# Altium footprint library YPW.PcbLib: 1 footprints
Each footprint in its own frame and in the unit in brackets; x right, y up, seen from the top. Pads: shape width x height; smd on the part's side, far side on the other; paste and mask are expansions set on the pad; w line width, h text height; cw(c..) or ccw(c..) is an arc to the next point about the centre after c.
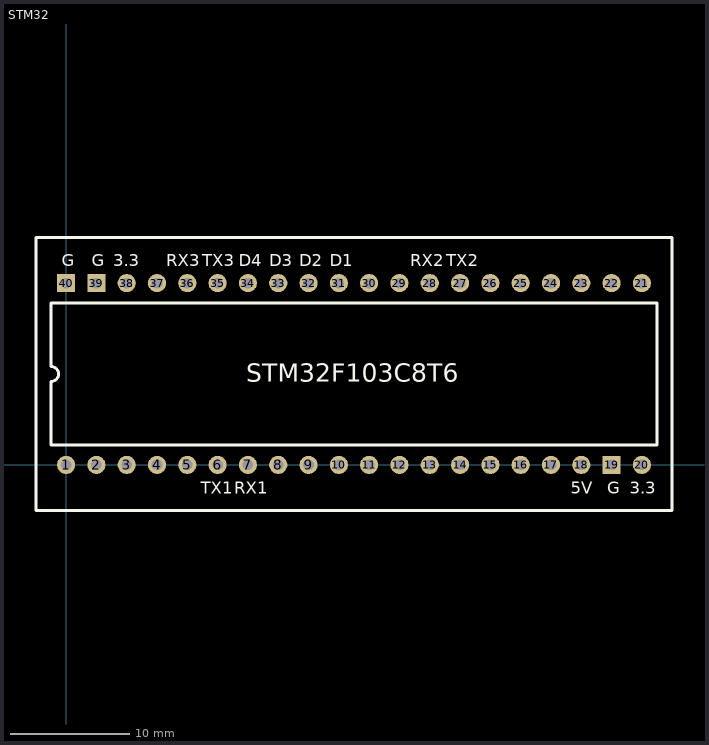
[diagram p0: the footprint, top view; thin cyan lines are the x and y axes]

## STM32 [mil]
pads (40):
  round 60 / inner round 50 / far side round 60 hole 35: 1(0,0) 2(100,0) 3(200,0) 4(300,0) 5(400,0) 6(500,0) 7(600,0) 8(700,0) 9(800,0) 10(900,0) 11(1000,0) 12(1100,0) 13(1200,0) 14(1300,0) 15(1400,0) 16(1500,0) 17(1600,0) 18(1700,0) 20(1900,0) 21(1900,600) 22(1800,600) 23(1700,600) 24(1600,600) 25(1500,600) 26(1400,600) 27(1300,600) 28(1200,600) 29(1100,600) 30(1000,600) 31(900,600) 32(800,600) 33(700,600) 34(600,600) 35(500,600) 36(400,600) 37(300,600) 38(200,600)
  rect 60x60 / inner rect 50x50 / far side rect 60x60 hole 35: 19(1800,0) 39(100,600) 40(0,600)
Top Overlay:
  lines w10: -100,-150 2000,-150 2000,750 -100,750 -100,-150 ; -50,65 -50,275 ccw(c-50,300) -50,325 -50,535 1950,535 1950,65 -50,65
  text "D1" at 870,655 h40
  text "D2" at 770,655 h40
  text "D3" at 670,655 h40
  text "D4" at 570,655 h40
  text "RX1" at 555,-95 h40
  text "TX1" at 445,-95 h40
  text "3.3" at 1860,-95 h40
  text "5V" at 1665,-95 h40
  text "G" at 1785,-95 h40
  text "3.3" at 155,655 h40
  text "G" at 85,655 h40
  text "G" at -15,655 h40
  text "STM32F103C8T6" at 595,275 h60
  text "TX3" at 450,655 h40
  text "RX3" at 330,655 h40
  text "RX2" at 1135,655 h40
  text "TX2" at 1255,655 h40